# EAGLE library part 62531420621 (library Wuerth_Elektronik_eiCan_05_Box_Header_IDC_Connectors_1_2)
WR-BHD 2.00mm Male SMT Box Header High Temperature, 14 pins
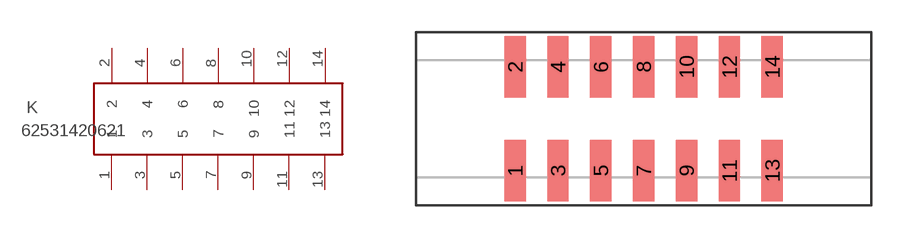
[diagram p47: symbol with the pads of 62531420621; footprint 62531420621]

Designator prefix K

## 62531420621  [62531420621]
1  1  pas
2  2  pas
3  3  pas
4  4  pas
5  5  pas
6  6  pas
7  7  pas
8  8  pas
9  9  pas
10  10  pas
11  11  pas
12  12  pas
13  13  pas
14  14  pas

## Footprint 62531420621 (pad centres in mm)
WRBHD-2.00mm Male SMT Box Header High Temperature,14 pins
smd 1 x 2.85: 1 -4,-2.425; 2 -4,2.425; 3 -2,-2.425; 4 -2,2.425; 5 0,-2.425; 6 0,2.425; 7 2,-2.425; 8 2,2.425; 9 4,-2.425; 10 4,2.425; 11 6,-2.425; 12 6,2.425; 13 8,-2.425; 14 8,2.425